# Altium schematic symbol library SLEEPTRACK2_PHASE3_Library.SchLib: 37 symbols
Pins are listed as number, name and electrical type; pins without a type are passive.

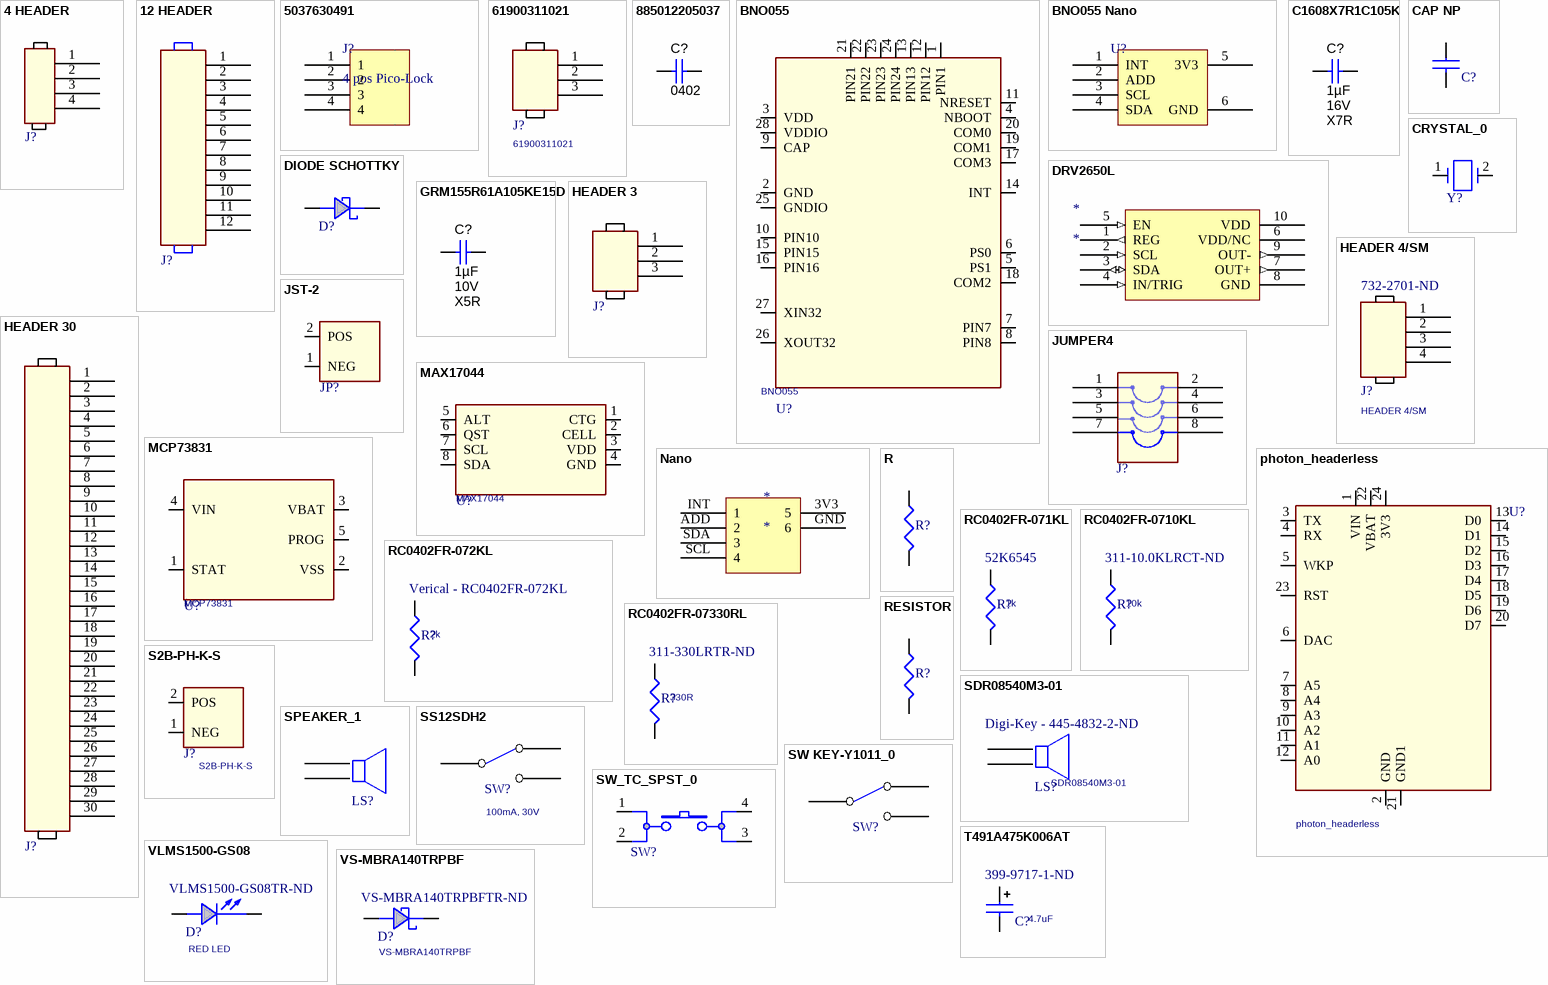
[diagram p0: symbols 4 HEADER to VS-MBRA140TRPBF]

## 4 HEADER
designator J?
pins: 1, 2, 3, 4

## 12 HEADER
designator J?
pins: 1, 2, 3, 4, 5, 6, 7, 8, 9, 10, 11, 12

## 5037630491
designator J?, comment 4 pos Pico-Lock
4 Positions Header, Shrouded Connector 0.039" (1.00mm) Surface Mount, Right Angle Gold
footprint 5037630491 (4 Positions Header, Shrouded Connector 0.039" (1.00mm) Surface Mount, Right Angle Gold)
pins: 1, 2, 3, 4, MH1 5, MH2 6

## 61900311021
designator J?
3 Positions Header, Unshrouded Connector 0.100" (2.54mm) Through Hole, Right Angle Tin
footprint 61900311021 (3 Positions Header, Unshrouded Connector 0.100" (2.54mm) Through Hole, Right Angle Tin)
pins: 1, 2, 3

## 885012205037
designator C?  Cap_Case: 0402  (hidden comment: 885012205037)
CAP, CERM, 0.1 µF, 16 V, +/- 10%, X7R, 0402; Manufacturer: Wurth Elektronik; Polarized: N; CompType: Capacitor; Value: 0.1uF; ValueDisplayed: 0.1µF; U/M: EA; Cap_F: 0.0000001; Tolerance_%: 10; Value1: Unknown; VDC_V: 16; Value2: 16V; TaMin_C: -55; TaMax_C: 125; AEC Category: Q200; SymbolVersion: 2008-07-09; PartNumber: 885012205037; PackageReference: 0402; RoHS: Y; MountType: SMT; Technology: Ceramic; TempCo: X7R; Published: 2008-06-19; Publisher: Texas Instruments; LatestRevisionDate: 2016-02-01; ComponentLink1Description: Datasheet link; ComponentLink1URL: http://katalog.we-online.de/pbs/datasheet/885012205037.pdf; Supplier 1: Digi-Key; Supplier Part Number 1: 732-7532-1-ND; Supplier 2: Mouser; Supplier Part Number 2: 710-885012205037; AEC Qualified: N; AEC Grade: N/A
signal-integrity model Cap
simulation model Cap
footprint 0402
footprint 0402M
footprint 0402L
footprint 0402S
pins: 1, 2

## BNO055
designator U?
footprint LCCS50P520X380X118-28N (LCC, 28-Pins, Body 5.20x3.80mmx1.18mm, Pitch 0.50mm, IPC Medium Density)
pins: 1 PIN1, 2 GND, 3 VDD, 4 NBOOT, 5 PS1, 6 PS0, 7 PIN7, 8 PIN8, 9 CAP, 10 PIN10, 11 NRESET, 12 PIN12, 13 PIN13, 14 INT, 15 PIN15, 16 PIN16, 17 COM3, 18 COM2, 19 COM1, 20 COM0, 21 PIN21, 22 PIN22, 23 PIN23, 24 PIN24, 25 GNDIO, 26 XOUT32, 27 XIN32, 28 VDDIO

## BNO055 Nano
designator U?  (value not drawn)
PESKY PRODUCTS BNO-055 NANO BREAKOUT BOARD
footprint BNO055 (PESKY PRODUCTS BNO-055 Nano Board)
pins: 1 INT, 2 ADD, 3 SCL, 4 SDA, 5 3V3, 6 GND

## C1608X7R1C105K
designator C?  ValueDisplayed: 1µF  Value2: 16V  TempCo: X7R  (hidden comment: C1608X7R1C105K)
CAP, CERM, 1 µF, 16 V, +/- 10%, X7R, 0603; Manufacturer: TDK; Polarized: N; CompType: Capacitor; Value: 1uF; U/M: EA; Cap_F: 0.000001; Tolerance_%: 10; ESR_ohm: 0.0057; Value1: 0.0057 ohm; VDC_V: 16; TaMin_C: -55; TaMax_C: 125; Cap_Case: 0603; SymbolVersion: 2008-07-09; PartNumber: C1608X7R1C105K; PackageReference: 0603; RoHS: Y; MountType: SMT; Technology: Ceramic; Published: 2008-06-19; Publisher: Texas Instruments; LatestRevisionDate: 2014-09-22; ComponentLink1Description: Datasheet link; ComponentLink1URL: http://www.tdk.co.jp/tefe02/e412_c.pdf; Supplier 1: Digi-Key; Supplier Part Number 1: 445-1604-1-ND; Supplier 2: Farnell; Supplier Part Number 2: 1907343
signal-integrity model Cap
simulation model Cap
footprint 0603
footprint 0603M
footprint 0603L
footprint 0603_HV
footprint 0603S
pins: 1, 2

## CAP NP
designator C?
pins: 1, 2

## CRYSTAL_0
designator Y?
pins: 1, 2

## DIODE SCHOTTKY
designator D?
pins: 1 ANODE, 2 CATHODE

## DRV2650L
designator *
footprint DGS0010A_N (TSSOP, 10-Leads, Body 3x3mm, Pitch 0.5mm, IPC Medium Density)
pins: 1 REG (out), 2 SCL (in), 3 SDA (io), 4 IN/TRIG (in), 5 EN (in), 6 VDD/NC (power), 7 OUT+ (out), 8 GND (power), 9 OUT- (out), 10 VDD (power)

## GRM155R61A105KE15D
designator C?  ValueDisplayed: 1µF  Value2: 10V  TempCo: X5R  (hidden comment: GRM155R61A105KE15D)
CAP, CERM, 1 µF, 10 V, +/- 10%, X5R, 0402; Manufacturer: MuRata; Polarized: N; CompType: Capacitor; Value: 1uF; U/M: EA; Cap_F: 0.000001; Tolerance_%: 10; Value1: Unknown; TaMin_C: -55; TaMax_C: 85; Cap_Case: 0402; AEC Category: Q200; SymbolVersion: 2008-07-09; PartNumber: GRM155R61A105KE15D; PackageReference: 0402; RoHS: Y; VDC_V: 10; MountType: SMT; Technology: Ceramic; Published: 2008-06-19; Publisher: Texas Instruments; LatestRevisionDate: 2016-01-22; ComponentLink1Description: Datasheet link; ComponentLink1URL: http://search.murata.co.jp/Ceramy/PnsearchViewAction.do?HnOFG=ON&HnNFG=ON&SEL_CNT=50&sLang=en&sKey=GRM155R61A105KE15D&x=9&y=9&search=startwith; Supplier 1: Digi-Key; Supplier Part Number 1: 490-3890-1-ND; Supplier 2: Mouser; Supplier Part Number 2: 81-GRM155R61A105KE15; Supplier 3: Farnell; Supplier Part Number 3: 1735523; AEC Qualified: ?
signal-integrity model Cap
simulation model Cap
footprint 0402
footprint 0402M
footprint 0402L
footprint 0402S
pins: 1, 2

## HEADER 3
designator J?
pins: 1, 2, 3

## HEADER 4/SM
designator J?  Supplier Part Number 1: 732-2701-ND
61900411021; Manufacturer: Wurth Electronics Inc.; Shrouding: Shrouded - 1 Wall; Material Flammability Rating: UL94 V-0; Description: HEADER 4POS PIN R/A 2.54MM T/H; Style: Board to Cable/Wire; Pitch - Mating: 0.100" (2.54mm); Current Rating: 3A; Voltage Rating: 250V; Number of Positions Loaded: All; Number of Positions: 4; Contact Length - Post: 0.134" (3.40mm); Contact Length - Mating: 0.300" (7.62mm); Supplier 1: Digi-Key; Connector Type: Header; Operating Temperature: -40°C ~ 105°C; Contact Type: Male Pin; Features: -; Contact Finish - Post: Tin; Manufacturer Part Number: 61900411021; Category: Connectors, Interconnects; Fastening Type: Friction Lock; Insulation Color: Beige; Insulation Material: Polyamide (PA66), Nylon 6/6; Contact Shape: Square; Contact Finish - Mating: Tin; Contact Finish Thickness - Mating: -; Number of Rows: 1; Packaging: Bulk; Supplier: Digi-Key; Ingress Protection: -; Insulation Height: 0.228" (5.80mm); Termination: Solder; Mated Stacking Heights: -; Applications: -; Overall Contact Length: -; Row Spacing - Mating: -; Part Status: Active; Contact Finish Thickness - Post: -; Mounting Type: Through Hole, Right Angle; RoHS: RoHS Compliant; Contact Material: Copper Alloy
footprint header4 (4 pos, 2.54 mm header)
footprint 61900411021 (4 Positions Header Connector 0.100" (2.54mm) Through Hole, Right Angle Tin)
pins: 1, 2, 3, 4

## HEADER 30
designator J?
pins: 1, 2, 3, 4, 5, 6, 7, 8, 9, 10, 11, 12, 13, 14, 15, 16, 17, 18, 19, 20, 21, 22, 23, 24, 25, 26, 27, 28, 29, 30

## JST-2
designator JP?
pins: 1 NEG, 2 POS

## JUMPER4
designator J?
pins: 1, 2, 3, 4, 5, 6, 7, 8

## MAX17044
designator U?
Battery Battery Monitor IC Lithium-Ion/Polymer 8-TDFN (2x3)
footprint SON50P300X100_HS-9M (SON, 8-Leads, Body 2.00x3.00mm, Pitch 0.50mm, Thermal Pad 1.63x1.06mm, IPC Low Density)
pins: 1 CTG, 2 CELL, 3 VDD, 4 GND, 5 ALT, 6 QST, 7 SCL, 8 SDA

## MCP73831
designator U?
Charger IC Lithium-Ion/Polymer SOT-23-5
footprint SOT95P270X145-5N (SOT23, 5-Leads, Body 2.90x2.70mm, Pitch 0.95mm, IPC Medium Density)
pins: 1 STAT, 2 VSS, 3 VBAT, 4 VIN, 5 PROG

## Nano
designator *
footprint BNO055 (PESKY PRODUCTS BNO-055 Nano Board)
pins: 3V3 5, ADD 2, GND 6, INT 1, SCL 4, SDA 3

## photon_headerless
designator U?
footprint Photon P0 - duplicate
pins: 1 VIN, 2 GND, 3 TX, 4 RX, 5 WKP, 6 DAC, 7 A5, 8 A4, 9 A3, 10 A2, 11 A1, 12 A0, 13 D0, 14 D1, 15 D2, 16 D3, 17 D4, 18 D5, 19 D6, 20 D7, 21 GND1, 22 VBAT, 23 RST, 24 3V3

## R
designator R?
pins: 1, 2

## RC0402FR-071KL
designator R?, comment 1k  Supplier Part Number: 52K6545
RES SMD 1K OHM 1% 1/16W 0402; Manufacturer: VISHAY; Manufacturer Part Number: CRCW04021K00FKED; Product Range: CRCW Series; Description: VISHAY - CRCW04021K00FKED - RES, THICK FILM, 1K, 1%, 0.063W, 0402; Power Rating: 63; Voltage Rating: 50; Resistance: 1; Resistor Case Style: 0402 [1005 Metric]; Resistance Tolerance: 1%; Supplier: Newark; Packaging: Cut Tape; Filter Terminals: SMD; RoHS: YESX
footprint RESC402N (Chip Resistor, 2-Leads, Body 1.00x0.50mm, IPC Medium Density)
pins: 1, 2

## RC0402FR-072KL
designator R?, comment 2k  Supplier Part Number: Verical - RC0402FR-072KL
RES SMD 2K OHM 1% 1/16W 0402; Manufacturer Part Number: RC0402FR-072KL; Manufacturer: Yageo; lead_free_status: Lead Free; mounting_style: Surface Mount; power_rating: 0.0625; resistance: 2000.0; voltage_rating_dc: 50.0; pin_count: 2; size_length: 0.001; Description: Res Thick Film 1.0 x 0.5 mm 2K Ohm 1% 0.063W(1/16W) 100ppm/ C Molded SMD Paper T/R; Seller Landing  Url: https://octopart.com/click/track?country=US&ak=8157f166&sig=0c49995&sid=5489&ppid=5032519&vpid=271460744&ct=offers; Supplier: Octopart; OctopartID: 79c6b08096e7a601; rohs_status: Compliant; resistance_tolerance: ±1%; case_package: 0402; Octopart Url: http://octopart.com/rc0402fr-072kl-yageo-5032519; packaging: Cut Tape (CT); reach_svhc_compliance: No SVHC
footprint RESC402N (Chip Resistor, 2-Leads, Body 1.00x0.50mm, IPC Medium Density)
pins: 1, 2

## RC0402FR-0710KL
designator R?, comment 10k  Supplier Part Number: 311-10.0KLRCT-ND
RES SMD 10K OHM 1% 1/16W 0402; Manufacturer Part Number: RC0402FR-0710KL; Manufacturer: Yageo; Power (Watts): 0.063W, 1/16W; Temperature Coefficient: ±100ppm/°C; Number of Terminations: 2; Resistance (Ohms): 10k; Failure Rate: -; Height - Seated (Max): 0.016" (0.40mm); Operating Temperature: -55°C ~ 155°C; Package / Case: 0402 (1005 Metric); Category: Resistors; Tolerance: ±1%; Supplier Device Package: 0402; Part Status: Active; Composition: Thick Film; Features: Moisture Resistant; RoHS: RoHS Compliant; Supplier: Digi-Key; Packaging: Cut Tape (CT); Size / Dimension: 0.039" L x 0.020" W (1.00mm x 0.50mm)
footprint RESC402N (Chip Resistor, 2-Leads, Body 1.00x0.50mm, IPC Medium Density)
pins: 1, 2

## RC0402FR-07330RL
designator R?, comment 330R  Supplier Part Number: 311-330LRTR-ND
RES SMD 330R OHM 1% 1/16W 0402; Manufacturer: Yageo; Manufacturer Part Number: RC0402FR-07330RL; Description: RES SMD 330 OHM 1% 1/16W 0402; Temperature Coefficient: ±100ppm/°C; Power (Watts): 0.063W, 1/16W; Resistance (Ohms): 330; Failure Rate: -; Packaging: Tape & Reel (TR); Tolerance: ±1%; RoHS: RoHS Compliant; Supplier: Digi-Key; Category: Resistors; Number of Terminations: 2; Size / Dimension: 0.039" L x 0.020" W (1.00mm x 0.50mm); Features: Moisture Resistant; Operating Temperature: -55°C ~ 155°C; Supplier Device Package: 0402; Package / Case: 0402 (1005 Metric); Part Status: Active; Height - Seated (Max): 0.016" (0.40mm); Composition: Thick Film
footprint RESC402N (Chip Resistor, 2-Leads, Body 1.00x0.50mm, IPC Medium Density)
pins: 1, 2

## RESISTOR
designator R?
pins: 1, 2

## S2B-PH-K-S
designator J?
2 Positions Header, Shrouded Connector 0.079" (2.00mm) Through Hole, Right Angle Tin; Manufacturer Part Number: S2B-PH-K-S(LF)(SN); Manufacturer: JST; size_width: 0.0076; gender: Male; size_height: 0.0048; lead_free_status: Lead Free; number_of_rows: 1; size_length: 0.0059; pin_pitch: 0.002; contact_material: Brass; number_of_positions: 2; Description: PH Series 2 Position 2.0 mm Through Hole Side Entry Shrouded Header; ComponentLink1URL: http://datasheet.octopart.com/S2B-PH-K-S%28LF%29%28SN%29-JST-datasheet-10411123.pdf; ComponentLink1Description: http://datasheet.octopart.com/S2B-PH-K-S%28LF%29%28SN%29-JST-datasheet-10411123.pdf; ComponentLink2URL: http://datasheet.octopart.com/S2B-PH-K-S%28LF%29%28SN%29-JST-datasheet-8324864.pdf; ComponentLink2Description: http://datasheet.octopart.com/S2B-PH-K-S%28LF%29%28SN%29-JST-datasheet-8324864.pdf; ComponentLink3URL: http://datasheet.octopart.com/S2B-PH-K-S%28LF%29%28SN%29-JST-datasheet-12510261.pdf; ComponentLink3Description: http://datasheet.octopart.com/S2B-PH-K-S%28LF%29%28SN%29-JST-datasheet-12510261.pdf; ComponentLink4URL: http://datasheet.octopart.com/S2B-PH-K-S%28LF%29%28SN%29-JST-datasheet-56537.pdf; ComponentLink4Description: http://datasheet.octopart.com/S2B-PH-K-S%28LF%29%28SN%29-JST-datasheet-56537.pdf; Pricing: 1000=0.03970, 2000=0.03690, 4000=0.03430 (USD); Octopart Url: http://octopart.com/s2b-ph-k-s%28lf%29%28sn%29-jst-248883; housing_material: Nylon; rohs_status: Compliant; Seller Landing  Url: https://octopart.com/click/track?country=US&ak=8157f166&sig=05a2b48&sid=7803&ppid=248883&vpid=177295325&ct=offers; OctopartID: 84064d0f6d535bc1; contact_plating: Tin; number_of_contacts: 2; mounting_style: Through Hole; housing_color: Natural; packaging: Bulk; Supplier: Octopart
footprint S2B-PH-K-S (2 Positions Header, Shrouded Connector 0.079" (2.00mm) Through Hole, Right Angle Tin)
pins: 1 NEG, 2 POS

## SDR08540M3-01
designator LS?  Supplier Part Number: Digi-Key - 445-4832-2-ND
Speakers & Transducers 88dB 85mA 3volts 2670Hz; Manufacturer: TDK; Description: Audio Indicator Buzzer Electromagnetic 3Vo-p 85mA Solder Pad Surface Mount; lead_free_status: Lead Free; mounting_style: Surface Mount; rohs_status: Compliant; Seller Landing  Url: https://octopart.com/click/track?country=US&ak=8157f166&sig=09e48ab&sid=459&ppid=18815660&vpid=33583463&ct=offers; Supplier: Octopart; packaging: Cut Tape (CT); Octopart Url: http://octopart.com/sdr08540m3-01-tdk-18815660; Manufacturer Part Number: SDR08540M3-01; OctopartID: f9c931dcc603260e
footprint SDR08540M3-01 (Speakers & Transducers 88dB 85mA 3volts 2670Hz)
pins: 1, 2

## SPEAKER_1
designator LS?
pins: 1, 2

## SS12SDH2
designator SW?, comment 100mA, 30V
Slide Switch SPDT Through Hole, Right Angle; contact_material: Phosphor Bronze; actuator_type: Standard; Supplier 1: Octopart
footprint SS12DH2 (Slide Switch SPDT Through Hole, Right Angle)
pins: 1 COMMON, 2 NC, 3 NO

## SW KEY-Y1011_0
designator SW?
Supplier 1: Octopart; Supplier 2: Newark
pins: 1 COMMON, 2 NC, 3 NO

## SW_TC_SPST_0
designator SW?
pins: 1, 2, 3, 4

## T491A475K006AT
designator C?, comment 4.7uF  Supplier Part Number 1: 399-9717-1-ND
4.7µF ±10% Molded Tantalum Capacitors 6.3V 1206 (3216 Metric) 6 Ohm; Supplier 1: Digi-Key
footprint CAPCP1206 (Chip Capacitor, 2-Leads, Body 3.20x1.50mm, IPC Medium Density)
pins: 1, 2

## VLMS1500-GS08
designator D?, comment RED LED  Supplier Part Number 1: VLMS1500-GS08TR-ND
Red 631nm LED Indication - Discrete 2V 0402 (1005 Metric); Supplier 1: Digi-Key
pins: 1 CATHODE, 2 ANODE

## VS-MBRA140TRPBF
designator D?  Supplier Part Number 1: VS-MBRA140TRPBFTR-ND
Diode Schottky 40V 1A Surface Mount SMA; Supplier 1: Digi-Key
footprint D0-214AC (Molded Diode, 2-Leads, Body 4.29x2.69mm, IPC Medium Density)
pins: 1 ANODE, 2 CATHODE